# EAGLE library part STM32F407VGT6 (library STM32F407VGT6)
STM32 Series 32-bit 1 MB Flash 192 kB RAM ARM Based Microcontroller - LQFP-100
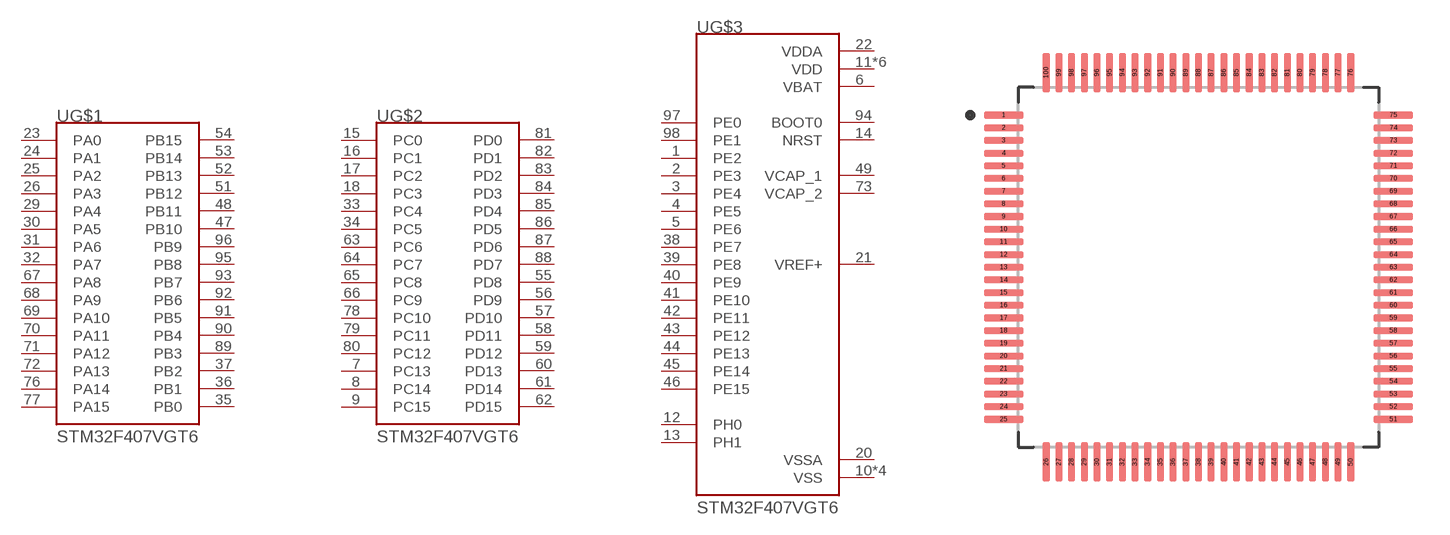
[diagram p0: symbol with the pads of QFP50P1600X1600X160-100N; footprint QFP50P1600X1600X160-100N]

Designator prefix U; gates G$1=STM32F407VGT6_SECTION1 G$2=STM32F407VGT6_SECTION2 G$3=STM32F407VGT6_SECTION3

## STM32F407VGT6 (Description: STM32 Series 32-bit 1 MB Flash 192 kB RAM ARM Based Microcontroller - LQFP-100; Digi-Key_Part_Number: 497-11605-ND; Digi-Key_Purchase_URL: https://www.digikey.com/product-detail/en/stmicroelectronics/STM32F407VGT6/497-11605-ND/2747117?utm_source=snapeda&utm_medium=aggregator&utm_campaign=symbol; MF: STMicroelectronics; MP: STM32F407VGT6; Package: LQFP-100 STMicroelectronics)  [QFP50P1600X1600X160-100N]
1  G$3:PE2
2  G$3:PE3
3  G$3:PE4
4  G$3:PE5
5  G$3:PE6
6  G$3:VBAT  pwr
7  G$2:PC13
8  G$2:PC14
9  G$2:PC15
10  G$3:VSS  pwr
11  G$3:VDD  pwr
12  G$3:PH0
13  G$3:PH1
14  G$3:NRST
15  G$2:PC0
16  G$2:PC1
17  G$2:PC2
18  G$2:PC3
19  G$3:VDD  pwr
20  G$3:VSSA  pwr
21  G$3:VREF+  pwr
22  G$3:VDDA  pwr
23  G$1:PA0
24  G$1:PA1
25  G$1:PA2
26  G$1:PA3
27  G$3:VSS  pwr
28  G$3:VDD  pwr
29  G$1:PA4
30  G$1:PA5
31  G$1:PA6
32  G$1:PA7
33  G$2:PC4
34  G$2:PC5
35  G$1:PB0
36  G$1:PB1
37  G$1:PB2
38  G$3:PE7
39  G$3:PE8
40  G$3:PE9
41  G$3:PE10
42  G$3:PE11
43  G$3:PE12
44  G$3:PE13
45  G$3:PE14
46  G$3:PE15
47  G$1:PB10
48  G$1:PB11
49  G$3:VCAP_1  pas
50  G$3:VDD  pwr
51  G$1:PB12
52  G$1:PB13
53  G$1:PB14
54  G$1:PB15
55  G$2:PD8
56  G$2:PD9
57  G$2:PD10
58  G$2:PD11
59  G$2:PD12
60  G$2:PD13
61  G$2:PD14
62  G$2:PD15
63  G$2:PC6
64  G$2:PC7
65  G$2:PC8
66  G$2:PC9
67  G$1:PA8
68  G$1:PA9
69  G$1:PA10
70  G$1:PA11
71  G$1:PA12
72  G$1:PA13
73  G$3:VCAP_2  pas
74  G$3:VSS  pwr
75  G$3:VDD  pwr
76  G$1:PA14
77  G$1:PA15
78  G$2:PC10
79  G$2:PC11
80  G$2:PC12
81  G$2:PD0
82  G$2:PD1
83  G$2:PD2
84  G$2:PD3
85  G$2:PD4
86  G$2:PD5
87  G$2:PD6
88  G$2:PD7
89  G$1:PB3
90  G$1:PB4
91  G$1:PB5
92  G$1:PB6
93  G$1:PB7
94  G$3:BOOT0  in
95  G$1:PB8
96  G$1:PB9
97  G$3:PE0
98  G$3:PE1
99  G$3:VSS  pwr
100  G$3:VDD  pwr

## Footprint QFP50P1600X1600X160-100N (pad centres in mm)
smd 1.56 x 0.28: 1 -7.68,6; 2 -7.68,5.5; 3 -7.68,5; 4 -7.68,4.5; 5 -7.68,4; 6 -7.68,3.5; 7 -7.68,3; 8 -7.68,2.5; 9 -7.68,2; 10 -7.68,1.5; 11 -7.68,1; 12 -7.68,0.5; 13 -7.68,0; 14 -7.68,-0.5; 15 -7.68,-1; 16 -7.68,-1.5; 17 -7.68,-2; 18 -7.68,-2.5; 19 -7.68,-3; 20 -7.68,-3.5; 21 -7.68,-4; 22 -7.68,-4.5; 23 -7.68,-5; 24 -7.68,-5.5; 25 -7.68,-6; 51 7.68,-6; 52 7.68,-5.5; 53 7.68,-5; 54 7.68,-4.5; 55 7.68,-4; 56 7.68,-3.5; 57 7.68,-3; 58 7.68,-2.5; 59 7.68,-2; 60 7.68,-1.5; 61 7.68,-1; 62 7.68,-0.5; 63 7.68,0; 64 7.68,0.5; 65 7.68,1; 66 7.68,1.5; 67 7.68,2; 68 7.68,2.5; 69 7.68,3; 70 7.68,3.5; 71 7.68,4; 72 7.68,4.5; 73 7.68,5; 74 7.68,5.5; 75 7.68,6
smd 0.28 x 1.56: 26 -6,-7.68; 27 -5.5,-7.68; 28 -5,-7.68; 29 -4.5,-7.68; 30 -4,-7.68; 31 -3.5,-7.68; 32 -3,-7.68; 33 -2.5,-7.68; 34 -2,-7.68; 35 -1.5,-7.68; 36 -1,-7.68; 37 -0.5,-7.68; 38 0,-7.68; 39 0.5,-7.68; 40 1,-7.68; 41 1.5,-7.68; 42 2,-7.68; 43 2.5,-7.68; 44 3,-7.68; 45 3.5,-7.68; 46 4,-7.68; 47 4.5,-7.68; 48 5,-7.68; 49 5.5,-7.68; 50 6,-7.68; 76 6,7.68; 77 5.5,7.68; 78 5,7.68; 79 4.5,7.68; 80 4,7.68; 81 3.5,7.68; 82 3,7.68; 83 2.5,7.68; 84 2,7.68; 85 1.5,7.68; 86 1,7.68; 87 0.5,7.68; 88 0,7.68; 89 -0.5,7.68; 90 -1,7.68; 91 -1.5,7.68; 92 -2,7.68; 93 -2.5,7.68; 94 -3,7.68; 95 -3.5,7.68; 96 -4,7.68; 97 -4.5,7.68; 98 -5,7.68; 99 -5.5,7.68; 100 -6,7.68